# Altium footprint library RBR-RAMON.PcbLib: 12 footprints
Each footprint in its own frame and in the unit in brackets; x right, y up, seen from the top. Pads: shape width x height; smd on the part's side, far side on the other; paste and mask are expansions set on the pad; w line width, h text height; cw(c..) or ccw(c..) is an arc to the next point about the centre after c.
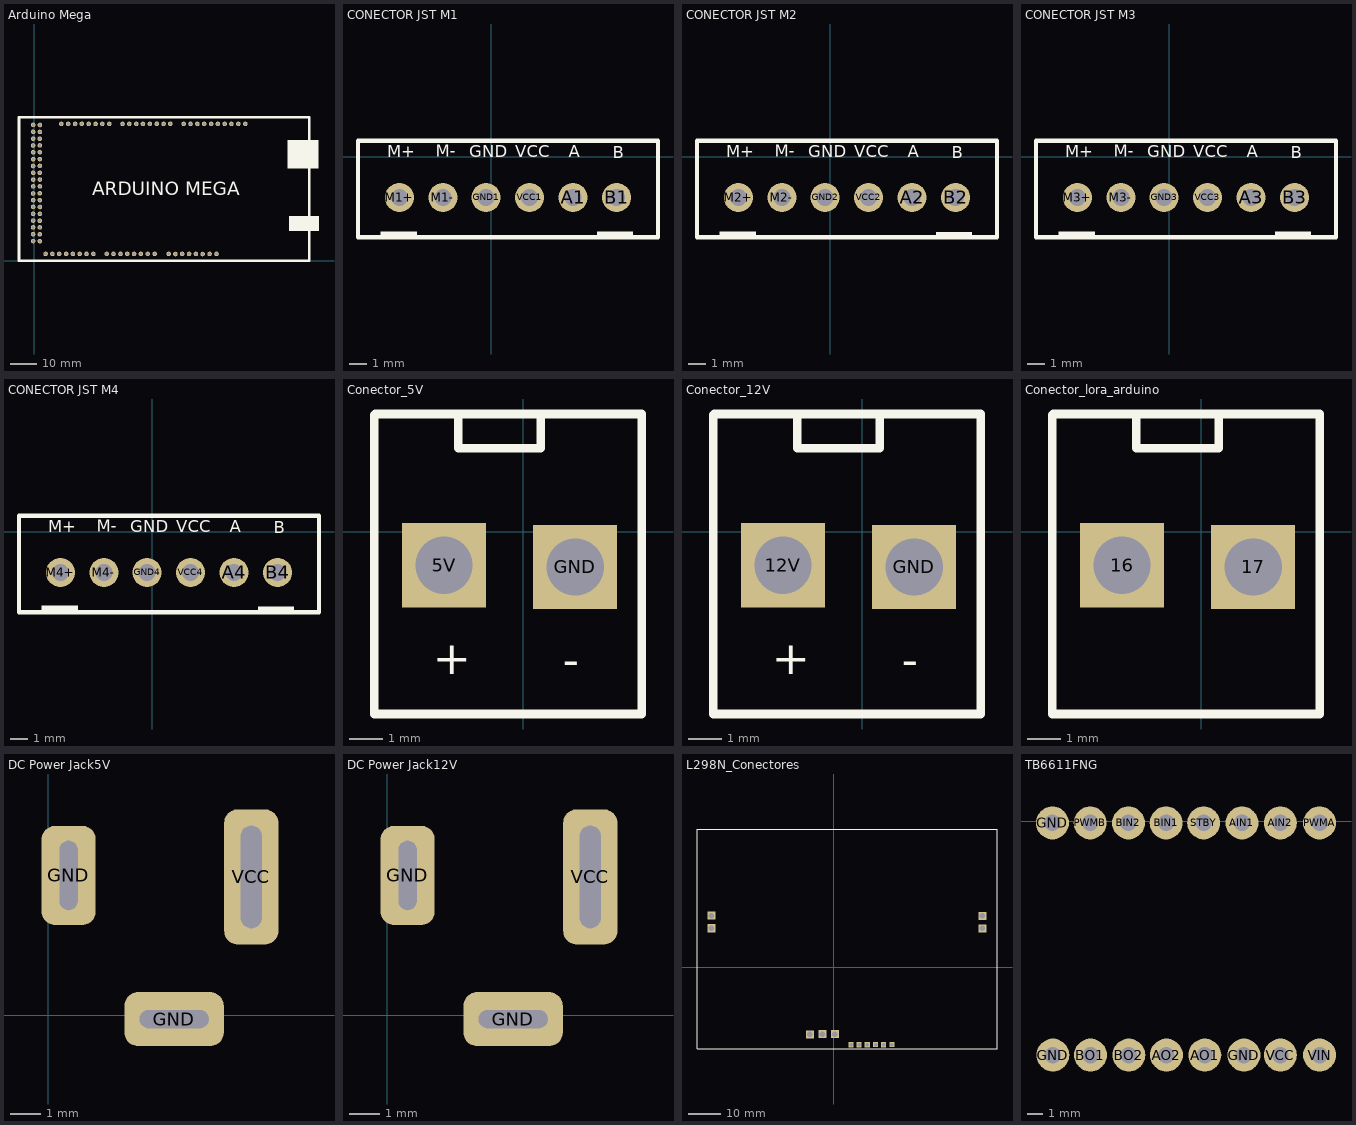
[diagram p0: the footprints below, top view; thin cyan lines are the x and y axes]

## Arduino Mega [mm]
pads (86):
  round 1.7 hole 1: 0-TX0(32.817,50.8) 1-TX0(35.357,50.8) 2(37.925,50.8) 3(40.411,50.8) 3.3V(60.096,2.464) 4(42.977,50.8) 5(45.542,50.825) 5V(-0.406,50.419) 5V(2.083,50.394) 5V(57.556,2.464) 6(48.082,50.8) 7(50.597,50.851) 8(55.55,50.8) 9(58.09,50.8) 10(60.655,50.8) 11(63.17,50.8) 12(65.761,50.8) 13(68.224,50.8) 14-TX3(27.889,50.8) 15-RX3(25.324,50.8) 16-TX2(22.784,50.8) 17-RX2(20.244,50.8) 18-TX1(17.704,50.851) 19-RX1(15.19,50.8) 20-SDA(12.624,50.8) 21-SCL(10.058,50.8) 22(2.108,47.828) 23(-0.406,47.854) 24(2.083,45.288) 25(-0.381,45.314) 26(2.083,42.799) 27(-0.406,42.774) 28(2.083,40.31) 29(-0.406,40.259) 30(2.083,37.719) 31(-0.406,37.694) 32(2.083,35.179) 33(-0.406,35.154) 34(2.083,32.639) 35(-0.406,32.614) 36(2.108,30.124) 37(-0.406,30.099) 38(2.108,27.559) 39(-0.406,27.559) 40(2.083,25.019) 41(-0.406,24.938) 42(2.083,22.454) 43(-0.406,22.479) 44(2.083,19.914) 45(-0.406,19.939) 46(2.108,17.374) 47(-0.432,17.399) 48(2.083,14.808) 49(-0.406,14.884) 50(2.083,12.319) 51(-0.432,12.319) 52(2.083,9.754) 53(-0.432,9.804) A0(44.755,2.489) A1(42.189,2.464) A2(39.624,2.489) A3(37.109,2.464) A4(34.569,2.489) A5(32.055,2.464) A6(29.464,2.489) A7(26.949,2.464) A8(21.996,2.489) A9(19.431,2.464) A10(16.891,2.489) A11(14.376,2.489) A12(11.862,2.489) A13(9.271,2.489) A14(6.756,2.489) A15(4.216,2.489) AREF(73.304,50.8) GND(-0.406,7.264) GND(2.083,7.214) GND(52.476,2.438) GND(54.991,2.489) GND(70.764,50.8) IOREF(65.176,2.464) N/A(67.742,2.489) RESET(62.611,2.438) SCL(78.435,50.8) SDA(75.844,50.8) VIN(49.987,2.489)
Top Overlay:
  rectangle: 94.183,34.265 105.689,44.78
  rectangle: 94.615,10.922 105.842,16.612
  lines w1: -5.664,-0.025 102.26,-0.025 102.26,53.238 -5.664,53.238 -5.664,-0.025
  text "ARDUINO MEGA" at 21.59,24.333 h5
3D body "ARDUINO_MEGA_ALTIUM.STEP": height 10.71, standoff -3.54, extent -5.715,-0.102 102.235,53.315

## CONECTOR JST M1 [mm]
pads (6):
  round 1.7 hole 1: A1(4.775,-2.388) B1(7.315,-2.388) GND1(-0.305,-2.388) M1+(-5.359,-2.388) M1-(-2.819,-2.388) VCC1(2.235,-2.388)
Top Overlay:
  rectangle: -6.452,-4.597 -4.343,-4.375
  rectangle: 6.172,-4.597 8.28,-4.375
  lines w0.254: -7.772,-4.699 -7.772,0.914 9.728,0.914 9.728,-4.699 -7.772,-4.699
  text "M+" at -6.071,-0.051 h0.7
  text "M-" at -3.226,0 h0.7
  text "GND" at -1.27,-0.051 h0.7
  text "VCC" at 1.397,-0.051 h0.7
  text "A" at 4.521,-0.051 h0.7
  text "B" at 7.087,-0.102 h0.7
3D body "JST XH 6 S6B-XH-A1 shrouded header connector.STEP": height 2.95, standoff -7.5, extent -7.823,-4.729 9.717,1.021

## CONECTOR JST M2 [mm]
pads (6):
  round 1.7 hole 1: A2(4.775,-2.388) B2(7.315,-2.388) GND2(-0.305,-2.388) M2+(-5.359,-2.388) M2-(-2.819,-2.388) VCC2(2.235,-2.388)
Top Overlay:
  rectangle: -6.452,-4.597 -4.343,-4.375
  rectangle: 6.172,-4.597 8.28,-4.4
  lines w0.254: -7.772,-4.699 -7.772,0.914 9.728,0.914 9.728,-4.699 -7.772,-4.699
  text "M+" at -6.071,-0.051 h0.7
  text "M-" at -3.226,0 h0.7
  text "GND" at -1.27,-0.051 h0.7
  text "VCC" at 1.397,-0.051 h0.7
  text "A" at 4.521,-0.051 h0.7
  text "B" at 7.087,-0.102 h0.7
3D body "JST XH 6 S6B-XH-A1 shrouded header connector.STEP": height 2.95, standoff -7.5, extent -7.823,-4.729 9.717,1.021

## CONECTOR JST M3 [mm]
pads (6):
  round 1.7 hole 1: A3(4.775,-2.388) B3(7.315,-2.388) GND3(-0.305,-2.388) M3+(-5.359,-2.388) M3-(-2.819,-2.388) VCC3(2.235,-2.388)
Top Overlay:
  rectangle: 6.172,-4.597 8.28,-4.375
  rectangle: -6.452,-4.597 -4.343,-4.375
  lines w0.254: -7.772,-4.699 9.728,-4.699 9.728,0.914 -7.772,0.914 -7.772,-4.699
  text "B" at 7.087,-0.102 h0.7
  text "A" at 4.521,-0.051 h0.7
  text "VCC" at 1.397,-0.051 h0.7
  text "GND" at -1.27,-0.051 h0.7
  text "M-" at -3.226,0 h0.7
  text "M+" at -6.071,-0.051 h0.7
3D body "JST XH 6 S6B-XH-A1 shrouded header connector.STEP": height 2.95, standoff -7.5, extent -7.823,-4.729 9.717,1.021

## CONECTOR JST M4 [mm]
pads (6):
  round 1.7 hole 1: A4(4.775,-2.388) B4(7.315,-2.388) GND4(-0.305,-2.388) M4+(-5.359,-2.388) M4-(-2.819,-2.388) VCC4(2.235,-2.388)
Top Overlay:
  rectangle: -6.452,-4.597 -4.343,-4.3
  rectangle: 6.172,-4.597 8.28,-4.375
  lines w0.254: -7.772,-4.699 -7.772,0.914 9.728,0.914 9.728,-4.699 -7.772,-4.699
  text "M+" at -6.071,-0.051 h0.7
  text "M-" at -3.226,0 h0.7
  text "GND" at -1.27,-0.051 h0.7
  text "VCC" at 1.397,-0.051 h0.7
  text "A" at 4.521,-0.051 h0.7
  text "B" at 7.087,-0.102 h0.7
3D body "JST XH 6 S6B-XH-A1 shrouded header connector.STEP": height 2.95, standoff -7.5, extent -7.823,-4.729 9.717,1.021

## Conector_5V [mm]
pads (2):
  rect 2.5x2.5 hole 1.7: 5V(-2.35,-1) GND(1.55,-1.05)
Top Overlay:
  lines w0.254: -1.925,3.45 -1.925,2.475 0.525,2.475 0.525,3.4 ; -4.425,-5.425 3.525,-5.425 3.525,3.5 -4.4,3.5 -4.425,3.475 -4.425,-5.425
  text "+" at -2.696,-4.238 h1
  text "-" at 1.179,-4.296 h1
3D body "Molex 2 Pin.step": height 11.7, standoff -3.65, extent -4.42,-5.475 3.58,3.503

## Conector_12V [mm]
pads (2):
  rect 2.5x2.5 hole 1.7: 12V(-2.35,-1) GND(1.55,-1.05)
Top Overlay:
  lines w0.254: -1.925,3.45 -1.925,2.475 0.525,2.475 0.525,3.4 ; -4.425,-5.425 3.525,-5.425 3.525,3.5 -4.4,3.5 -4.425,3.475 -4.425,-5.425
  text "+" at -2.696,-4.238 h1
  text "-" at 1.179,-4.296 h1
3D body "Molex 2 Pin.step": height 11.7, standoff -3.65, extent -4.42,-5.475 3.58,3.503

## Conector_lora_arduino [mm]
pads (2):
  rect 2.5x2.5 hole 1.7: 16(-2.35,-1) 17(1.55,-1.05)
Top Overlay:
  lines w0.254: -1.925,3.45 -1.925,2.475 0.525,2.475 0.525,3.4 ; -4.425,-5.425 3.525,-5.425 3.525,3.5 -4.4,3.5 -4.425,3.475 -4.425,-5.425
3D body "Molex 2 Pin.step": height 11.7, standoff -3.65, extent -4.42,-5.475 3.58,3.503

## DC Power Jack5V [mm]
pads (3):
  rrect50% 1.8x3.3 hole 0.6 slot 2.3 at 90 deg: GND(0.686,4.648)
  rrect50% 3.3x1.8 hole 0.6 slot 2.3 at 0 deg: GND(4.191,-0.127)
  rrect50% 1.8x4.5 hole 0.7 slot 3.4 at 90 deg: VCC(6.756,4.597)
3D body "DC_Power_Jack_PCB_Mounted_2.1mm.step": height 11, standoff -4.1, extent -6.794,-0.327 7.406,9.123

## DC Power Jack12V [mm]
pads (3):
  rrect50% 1.8x3.3 hole 0.6 slot 2.3 at 90 deg: GND(0.686,4.648)
  rrect50% 3.3x1.8 hole 0.6 slot 2.3 at 0 deg: GND(4.191,-0.127)
  rrect50% 1.8x4.5 hole 0.7 slot 3.4 at 90 deg: VCC(6.756,4.597)
3D body "DC_Power_Jack_PCB_Mounted_2.1mm.step": height 11, standoff -4.1, extent -6.794,-0.327 7.406,9.123

## L298N_Conectores [mm]
pads (13):
  rect 2.5x2.5 hole 1.7: 5V(0.356,-20.93) 12V(-7.442,-20.98) GND(-3.556,-20.93) OUT1(-38.1,16.002) OUT2(-38.1,12.09) OUT3(46.33,12.065) OUT4(46.33,15.977)
  rect 1.6x1.6 hole 1.1: ENA(5.41,-24.206) ENB(18.11,-24.181) IN1(7.925,-24.206) IN2(10.439,-24.232) IN3(13.056,-24.181) IN4(15.545,-24.206)
Top Overlay:
  lines w0.254: -42.6,-25.45 50.875,-25.45 50.875,42.925 -42.6,42.925 -42.6,-25.45
3D body "L298N_CONECTORES.STEP": height 26.7, standoff -1.95, extent -42.629,-25.478 50.871,43.022

## TB6611FNG [mm]
pads (16):
  round 2.2 hole 1.1: AIN1(15.236,-0.101) AIN2(17.801,-0.101) AO1(12.751,-15.621) AO2(10.185,-15.621) BIN1(10.16,-0.102) BIN2(7.645,-0.102) BO1(5.105,-15.621) BO2(7.671,-15.621) GND(2.561,-0.101) GND(2.591,-15.621) GND(15.367,-15.621) PWMA(20.422,-0.102) PWMB(5.08,-0.102) STBY(12.671,-0.101) VCC(17.805,-15.621) VIN(20.422,-15.621)
3D body "TB6612FNG_Lower Pins.STEP": height 6.35, standoff -5.7, extent 0.996,-16.98 21.996,1.27